# Altium integrated library AC0603FR-07124KL.IntLib: 1 symbol
Pins are listed as number, name and electrical type; pins without a type are passive.

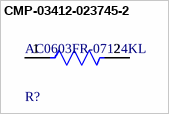
[diagram p0: symbol CMP-03412-023745-2]

## CMP-03412-023745-2
designator R?, comment AC0603FR-07124KL
RES 124KΩ 1.00% 0.1W 0603; Voltage Rating: 50V; Temperature Coefficient: 100ppm/°C; Tolerance: 1%; Resistance: 124kR; Max Power Dissipation: 100mW; Height: 0.022inch; Length: 0.063inch; Case Code (Imperial): 0603; Resistor Type: Thick Film; Case/Package: 0603; Number of Terminations: 2; Width: 0.8mm; Features: Moisture Resistant; Case Code (Metric): 1608; Max Operating Temperature: 155°C; Min Operating Temperature: -55°C; Series: AC; Termination: SMD/SMT; Power Rating: 100mW; Packaging: Tape and Reel
footprint FP-AC0603-IPC_C
footprint FP-AC0603-IPC_B
footprint FP-AC0603-MFG
footprint FP-AC0603-IPC_A
pins: 1, 2